# Altium schematic symbol library STM32F091RC.SchLib: 1 symbol
Pins are listed as number, name and electrical type; pins without a type are passive.

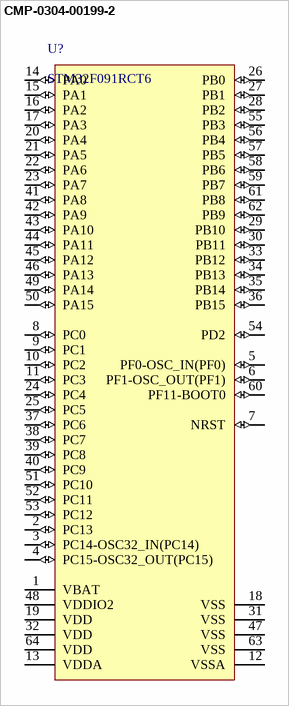
[diagram p0: symbol CMP-0304-00199-2]

## CMP-0304-00199-2
designator U?, comment STM32F091RCT6
ARM Cortex-M0 32-bit MCU, 256 KB Flash, 32 KB Internal RAM, 52 I/Os, 64-Pin LQFP, -40 to 85 degC, Tray; Manufacturer: STMicroelectronics; I/Os (High Current): 52; FLASH Size (Prog) (kB): 256; Operating Frequency(F) (Processor speed) (MHz): 48; D/A Converter: 1; Supply Voltage(Vcc) min (V): 2; Internal RAM Size (kB): 32; ComponentLink2Description: Datasheet; ComponentLink1Description: Manufacturer URL; Package Reference: LQFP64; Core: ARM Cortex-M0; PartNumber: STM32F091RCT6; Package Description: 64-Pin Low-profile Quad Flat Package, Body 10 x 10 mm, Pitch 0.5 mm; ComponentLink1URL: http://www.st.com/; ComponentLink2URL: http://www.st.com/st-web-ui/static/active/en/resource/technical/document/datasheet/DM00115237.pdf; DatasheetVersion: Rev. 2; Mounting Technology: Surface Mount; Packing: Tray
footprint STM-LQFP64_N (QFP, 64-Leads, Body 10x10mm, Pitch 0.5mm, IPC Medium Density)
footprint STM-LQFP64_M (QFP, 64-Leads, Body 10x10mm, Pitch 0.5mm, IPC Low Density)
footprint STM-LQFP64_L (QFP, 64-Leads, Body 10x10mm, Pitch 0.5mm, IPC High Density)
pins: 1 VBAT (power) "Backup power supply", 2 PC13 (io) "PC13/WKUP2,RTC_TAMP1,RTC_TS,RTC_OUT", 3 PC14-OSC32_IN(PC14) (io) "PC14-OSC32_IN(PC14)/OSC32_IN", 4 PC15-OSC32_OUT(PC15) (io) "PC15-OSC32_OUT(PC15)/OSC32_OUT", 5 PF0-OSC_IN(PF0) (io) "PF0-OSC_IN(PF0)/CRS_SYNC,I2C1_SDA/OSC_IN", 6 PF1-OSC_OUT(PF1) (io) "PF1-OSC_OUT(PF1)/I2C1_SCL/OSC_OUT", 7 NRST (io) "Device reset input/internal reset output(active low)", 8 PC0 (io) "PC0/EVENTOUT,USART6_TX,USART7_TX/ADC_IN10", 9 PC1 (io) "PC1/EVENTOUT,USART6_RX,USART7_RX/ADC_IN11", 10 PC2 (io) "PC2/SPI2_MISO,I2S2_MCK,EVENTOUT,USART8_TX/ADC_IN12", 11 PC3 (io) "PC3/SPI2_MOSI,I2S2_SD,EVENTOUT,USART8_RX/ADC_IN13", 12 VSSA (power) "Analog ground", 13 VDDA (power) "Analog power supply", 14 PA0 (io) "PA0/USART2_CTS,TIM2_CH1_ETR,TSC_G1_IO1,USART4_TX,COMP1_OUT/RTC_TAMP2,WKUP1,ADC_IN0,COMP1_INM6", 15 PA1 (io) "PA1/USART2_RTS,TIM2_CH2,TIM15_CH1N,TSC_G1_IO2,USART4_RX,EVENTOUT/ADC_IN1,COMP1_INP", 16 PA2 (io) "PA2/USART2_TX,TIM2_CH3,TIM15_CH1,TSC_G1_IO3,COMP2_OUT/ADC_IN2,WKUP4,COMP2_INM6", 17 PA3 (io) "PA3/USART2_RX,TIM2_CH4,TIM15_CH2,TSC_G1_IO4/ADC_IN3,COMP2_INP", 18 VSS (power) "Ground", 19 VDD (power) "Digital power supply", 20 PA4 (io) "PA4/SPI1_NSS,I2S1_WS,TIM14_CH1,TSC_G2_IO1,USART2_CK,USART6_TX/COMP1_INM4,COMP2_INM4,ADC_IN4,DAC_OUT1", 21 PA5 (io) "PA5/SPI1_SCK,I2S1_CK,CEC,TIM2_CH1_ETR,TSC_G2_IO2,USART6_RX/COMP1_INM5,COMP2_INM5,ADC_IN5,DAC_OUT2", 22 PA6 (io) "PA6/SPI1_MISO,I2S1_MCK,TIM3_CH1,TIM1_BKIN,TIM16_CH1,COMP1_OUT,TSC_G2_IO3,EVENTOUT,USART3_CTS/ADC_IN6", 23 PA7 (io) "PA7/SPI1_MOSI,I2S1_SD,TIM3_CH2,TIM14_CH1,TIM1_CH1N,TIM17_CH1,COMP2_OUT,TSC_G2_IO4,EVENTOUT/ADC_IN7", 24 PC4 (io) "PC4/EVENTOUT,USART3_TX/ADC_IN14", 25 PC5 (io) "PC5/TSC_G3_IO1,USART3_RX/ADC_IN15,WKUP5", 26 PB0 (io) "PB0/TIM3_CH3,TIM1_CH2N,TSC_G3_IO2,EVENTOUT,USART3_CK/ADC_IN8", 27 PB1 (io) "PB1/TIM3_CH4,USART3_RTS,TIM14_CH1,TIM1_CH3N,TSC_G3_IO3/ADC_IN9", 28 PB2 (io) "PB2/TSC_G3_IO4", 29 PB10 (io) "PB10/SPI2_SCK,I2S2_CK,I2C2_SCL,USART3_TX,CEC,TSC_SYNC,TIM2_CH3", 30 PB11 (io) "PB11/USART3_RX,TIM2_CH4,EVENTOUT,TSC_G6_IO1,I2C2_SDA", 31 VSS (power) "Ground", 32 VDD (power) "Digital power supply", 33 PB12 (io) "PB12/TIM1_BKIN,TIM15_BKIN,SPI2_NSS,I2S2_WS,USART3_CK,TSC_G6_IO2,EVENTOUT", 34 PB13 (io) "PB13/SPI2_SCK,I2S2_CK,I2C2_SCL,USART3_CTS,TIM1_CH1N,TSC_G6_IO3", 35 PB14 (io) "PB14/SPI2_MISO,I2S2_MCK,I2C2_SDA,USART3_RTS,TIM1_CH2N,TIM15_CH1,TSC_G6_IO4", 36 PB15 (io) "PB15/SPI2_MOSI,I2S2_SD,TIM1_CH3N,TIM15_CH1N,TIM15_CH2/WKUP7,RTC_REFIN", 37 PC6 (io) "PC6/TIM3_CH1,USART7_TX", 38 PC7 (io) "PC7/TIM3_CH2,USART7_RX", 39 PC8 (io) "PC8/TIM3_CH3,USART8_TX", 40 PC9 (io) "PC9/TIM3_CH4,USART8_RX", 41 PA8 (io) "PA8/USART1_CK,TIM1_CH1,EVENTOUT,MCO,CRS_SYNC", 42 PA9 (io) "PA9/USART1_TX,TIM1_CH2,TIM15_BKIN,MCO,TSC_G4_IO1,I2C1_SCL", 43 PA10 (io) "PA10/USART1_RX,TIM1_CH3,TIM17_BKIN,TSC_G4_IO2,I2C1_SDA", 44 PA11 (io) "PA11/CAN_RX,USART1_CTS,TIM1_CH4,COMP1_OUT,TSC_G4_IO3,EVENTOUT,I2C2_SCL", 45 PA12 (io) "PA12/CAN_TX,USART1_RTS,TIM1_ETR,COMP2_OUT,TSC_G4_IO4,EVENTOUT,I2C2_SDA", 46 PA13 (io) "PA13/IR_OUT,SWDIO", 47 VSS (power) "Ground", 48 VDDIO2 (power) "Digital power supply", 49 PA14 (io) "PA14/USART2_TX,SWCLK", 50 PA15 (io) "PA15/SPI1_NSS,I2S1_WS,USART2_RX,USART4_RTS,TIM2_CH1_ETR,EVENTOUT", 51 PC10 (io) "PC10/USART3_TX,USART4_TX", 52 PC11 (io) "PC11/USART3_RX,USART4_RX", 53 PC12 (io) "PC12/USART3_CK,USART4_CK,USART5_TX", 54 PD2 (io) "PD2/USART3_RTS,TIM3_ETR,USART5_RX", 55 PB3 (io) "PB3/SPI1_SCK,I2S1_CK,TIM2_CH2,TSC_G5_IO1,EVENTOUT,USART5_TX", 56 PB4 (io) "PB4/SPI1_MISO,I2S1_MCK,TIM17_BKIN,TIM3_CH1,TSC_G5_IO2,EVENTOUT,USART5_RX", 57 PB5 (io) "PB5/SPI1_MOSI,I2S1_SD,I2C1_SMBA,TIM16_BKIN,TIM3_CH2,USART5_CK_RTS/WKUP6", 58 PB6 (io) "PB6/I2C1_SCL,USART1_TX,TIM16_CH1N,TSC_G5_IO3", 59 PB7 (io) "PB7/I2C1_SDA,USART1_RX,USART4_CTS,TIM17_CH1N,TSC_G5_IO4", 60 PF11-BOOT0 (io), 61 PB8 (io) "PB8/I2C1_SCL,CEC,TIM16_CH1,TSC_SYNC,CAN_RX", 62 PB9 (io) "PB9/SPI2_NSS,I2S2_WS,I2C1_SDA,IR_OUT,TIM17_CH1,EVENTOUT,CAN_TX", 63 VSS (power) "Ground", 64 VDD (power) "Digital power supply"